# EAGLE library part SE2438T (library Pinoccio)
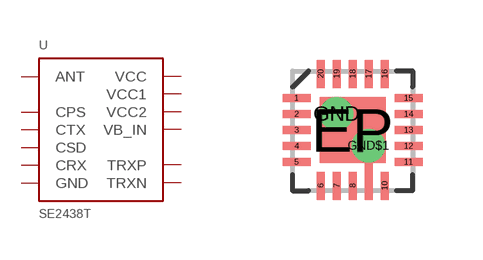
[diagram p37: symbol with the pads of QFN-20-SE2438T; footprint QFN-20-SE2438T]

Designator prefix -

## SE2438T  [QFN-20-SE2438T]
1  VCC1
2  VB_IN
3  TRXP
4  TRXN
5  GND
6  VCC
8  CPS
10  CRX
11  CTX
12  CSD
13  ANT
14  GND
18  GND
19  VCC2
20  GND
EP  GND
GND  GND
GND$1  GND

## Footprint QFN-20-SE2438T (pad centres in mm)
smd 0.7 x 0.2: 1 -1.4,0.8; 2 -1.4,0.4; 3 -1.4,0; 4 -1.4,-0.4; 5 -1.4,-0.8; 11 1.4,-0.8; 12 1.4,-0.4; 13 1.4,0; 14 1.4,0.4; 15 1.4,0.8
smd 0.2 x 0.7: 6 -0.8,-1.4; 7 -0.4,-1.4; 8 0,-1.4; 10 0.8,-1.4; 16 0.8,1.4; 17 0.4,1.4; 18 0,1.4; 19 -0.4,1.4; 20 -0.8,1.4
smd 1.65 x 1.65: EP 0,0
drill 0.33: GND -0.4,0.4; GND$1 0.4,-0.4